# Altium schematic symbol library 2SCR533PFRAT100.SchLib: 2 symbols
Pins are listed as number, name and electrical type; pins without a type are passive.

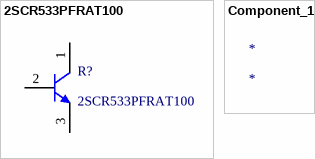
[diagram p0: symbols 2SCR533PFRAT100 to Component_1]

## 2SCR533PFRAT100
designator R?
TRANS NPN 50V 3A MPT3; Mfr_Name: ROHM Semiconductor; Copyright: Copyright (C) 2023 Ultra Librarian. All rights reserved.; Manufacturer_Part_Number: 2SCR533PFRAT100; Digi-Key_Part_Number_1: 2SCR533PFRAT100CT-ND; Digi-Key_Part_Number_2: 2SCR533PFRAT100DKR-ND; Digi-Key_Part_Number_3: 2SCR533PFRAT100TR-ND; RefDes: RefDes; Type: DEV
footprint TRANS_2SA2071P_ROM
pins: 1, 2, 3

## Component_1
designator *